# Altium schematic symbol library Resistors.SchLib: 19 symbols
Pins are listed as number, name and electrical type; pins without a type are passive.

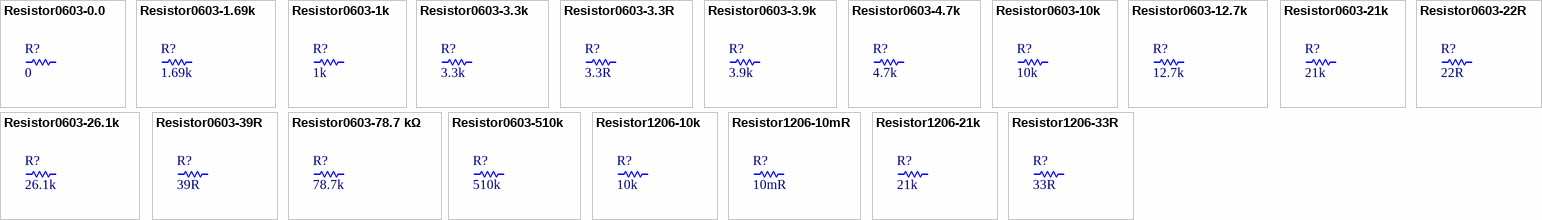
[diagram p0: symbols Resistor0603-0.0 to Resistor1206-33R]

## Resistor0603-0.0
designator R?, comment value 0  (hidden comment: SMT resistor)
Resistor0603-0.0; Precision: 1%; Watt: 0.1W; Mounted: Yes; Package / Case: Metric 1608, EIA 0603; Supplier 2: Digi-Key; Supplier 4: Digi-Key; Supplier Part Number 2: 1276-3510-2-ND; Supplier Part Number 4: 541-0.0GTR-ND; Supplier 1: Digi-Key; Supplier 3: Digi-Key; Supplier Part Number 1: RMCF0603ZT0R00TR-ND; Supplier Part Number 3: YAG1307TR-ND
footprint Resistor-0603
pins: 1, 2

## Resistor0603-1.69k
designator R?, comment value 1.69k  (hidden comment: SMT resistor)
Resistor0603-1.69k; Precision: 1%; Watt: 0.25W; Mounted: Yes; Package / Case: Metric 1608, EIA 0603; Supplier 2: Digi-Key; Supplier 4: Digi-Key; Supplier 1: Digi-Key; Supplier 3: Digi-Key; Supplier Part Number 1: RMCF0603FT1K69CT-ND
footprint Resistor-0603
pins: 1, 2

## Resistor0603-1k
designator R?, comment value 1k  (hidden comment: SMT resistor)
Resistor0603-1k; Precision: 1%; Watt: 0.1W; Mounted: Yes; Package / Case: Metric 1608, EIA 0603; Supplier 2: Digi-Key; Supplier 4: Digi-Key; Supplier Part Number 2: 311-1.00KHRTR-ND; Supplier 1: Digi-Key; Supplier 3: Digi-Key; Supplier Part Number 1: RMCF0603FT1K00TR-ND; Supplier Part Number 3: AG1307TR-ND
footprint Resistor-0603
pins: 1, 2

## Resistor0603-3.3k
designator R?, comment value 3.3k  (hidden comment: SMT resistor)
Resistor0603-3.3k; Precision: 5%; Watt: 0.25W; Mounted: Yes; Package / Case: Metric 1608, EIA 0603; Supplier 2: Digi-Key; Supplier 4: Digi-Key; Supplier 1: Digi-Key; Supplier 3: Digi-Key; Supplier Part Number 1: 311-3.30KHRCT-ND
footprint Resistor-0603
pins: 1, 2

## Resistor0603-3.3R
designator R?, comment value 3.3R  (hidden comment: SMT resistor)
Resistor0603-3.3R; Precision: 5%; Watt: 0.25W; Mounted: Yes; Package / Case: Metric 1608, EIA 0603; Supplier 2: Digi-Key; Supplier 4: Digi-Key; Supplier 1: Digi-Key; Supplier 3: Digi-Key; Supplier Part Number 1: RHM303DTR-ND
footprint Resistor-0603
pins: 1, 2

## Resistor0603-3.9k
designator R?, comment value 3.9k  (hidden comment: SMT resistor)
Resistor0603-3.9k; Precision: 1%; Watt: 0.1W; Mounted: Yes; Package / Case: Metric 1608, EIA 0603; Supplier 2: Digi-Key; Supplier 4: Digi-Key; Supplier 1: Digi-Key; Supplier 3: Digi-Key; Supplier Part Number 1: 311-3.90KHRCT-ND
footprint Resistor-0603
pins: 1, 2

## Resistor0603-4.7k
designator R?, comment value 4.7k  (hidden comment: SMT resistor)
Resistor0603-4.7k; Precision: 1%; Watt: 0.1W; Mounted: Yes; Package / Case: Metric 1608, EIA 0603; Supplier 2: Digi-Key; Supplier 4: Digi-Key; Supplier Part Number 2: RMCF0603FT4K70TR-ND; Supplier 1: Digi-Key; Supplier 3: Digi-Key; Supplier Part Number 1: 311-4.70KHRTR-ND
footprint Resistor-0603
pins: 1, 2

## Resistor0603-10k
designator R?, comment value 10k  (hidden comment: SMT resistor)
Resistor0603-10k; Precision: 1%; Watt: 0.1W; Mounted: Yes; Package / Case: Metric 1608, EIA 0603; Supplier 2: Digi-Key; Supplier 4: Digi-Key; Supplier Part Number 2: RMCF0603FT10K0TR-ND; Supplier 1: Digi-Key; Supplier 3: Digi-Key; Supplier Part Number 1: 311-10.0KHRTR-ND
footprint Resistor-0603
pins: 1, 2

## Resistor0603-12.7k
designator R?, comment value 12.7k  (hidden comment: SMT resistor)
Resistor0603-12.7k; Precision: 1%; Watt: 0.1W; Mounted: Yes; Package / Case: Metric 1608, EIA 0603; Supplier 2: Digi-Key; Supplier 4: Digi-Key; Supplier 1: Digi-Key; Supplier 3: Digi-Key; Supplier Part Number 1: RMCF0603FT12K7CT-ND
footprint Resistor-0603
pins: 1, 2

## Resistor0603-21k
designator R?, comment value 21k  (hidden comment: SMT resistor)
Resistor0603-21k; Precision: 1%; Watt: 0.1W; Mounted: Yes; Package / Case: Metric 1608, EIA 0603; Supplier 2: Digi-Key; Supplier 4: Digi-Key; Supplier 1: Digi-Key; Supplier 3: Digi-Key; Supplier Part Number 1: 311-21.0KHRCT-ND
footprint Resistor-0603
pins: 1, 2

## Resistor0603-22R
designator R?, comment value 22R  (hidden comment: SMT resistor)
Resistor0603-22R; Precision: 1%; Watt: 0.1W; Mounted: Yes; Package / Case: Metric 1608, EIA 0603; Supplier 2: Digi-Key; Supplier 4: Digi-Key; Supplier 1: Digi-Key; Supplier 3: Digi-Key; Supplier Part Number 1: RMCF0603FT22R0CT-ND
footprint Resistor-0603
pins: 1, 2

## Resistor0603-26.1k
designator R?, comment value 26.1k  (hidden comment: SMT resistor)
Resistor0603-26.1k; Precision: 1%; Watt: 0.1W; Mounted: Yes; Package / Case: Metric 1608, EIA 0603; Supplier 2: Digi-Key; Supplier 4: Digi-Key; Supplier 1: Digi-Key; Supplier 3: Digi-Key; Supplier Part Number 1: 311-26.1KHRCT-ND
footprint Resistor-0603
pins: 1, 2

## Resistor0603-39R
designator R?, comment value 39R  (hidden comment: SMT resistor)
Resistor0603-39R; Precision: 1%; Watt: 0.1W; Mounted: Yes; Package / Case: Metric 1608, EIA 0603; Supplier 2: Digi-Key; Supplier 4: Digi-Key; Supplier 1: Digi-Key; Supplier 3: Digi-Key; Supplier Part Number 1: RMCF0603FT39R0
footprint Resistor-0603
pins: 1, 2

## Resistor0603-78.7 kΩ
designator R?, comment value 78.7k  (hidden comment: SMT resistor)
Resistor0603-78.7 kΩ; Precision: 1%; Watt: 0.1W; Mounted: Yes; Package / Case: Metric 1608, EIA 0603; Supplier 2: Digi-Key; Supplier 4: Digi-Key; Supplier 1: Digi-Key; Supplier 3: Digi-Key; Supplier Part Number 1: 311-78.7KHRCT-ND
footprint Resistor-0603
pins: 1, 2

## Resistor0603-510k
designator R?, comment value 510k  (hidden comment: SMT resistor)
Resistor0603-510k; Precision: 1%; Watt: 0.1W; Mounted: Yes; Package / Case: Metric 1608, EIA 0603; Supplier 2: Digi-Key; Supplier 4: Digi-Key; Supplier 1: Digi-Key; Supplier 3: Digi-Key; Supplier Part Number 1: P510KHCT-ND
footprint Resistor-0603
pins: 1, 2

## Resistor1206-10k
designator R?, comment value 10k  (hidden comment: SMT resistor)
Resistor1206-10k; Precision: 1%; Watt: 0.1W; Mounted: Yes; Package / Case: Metric 3216, EIA 1206; Supplier 2: Digi-Key; Supplier 4: Digi-Key; Supplier 1: Digi-Key; Supplier 3: Digi-Key; Supplier Part Number 1: RMCF1206FT10K0TR-ND
footprint RESISTOR-1206 (Metric 3216, EIA 1206. Drawn per Yageo "Chip resistors Mounting" rev 10)
pins: 1, 2

## Resistor1206-10mR
designator R?, comment value 10mR  (hidden comment: SMT resistor)
Resistor1206-10mR; Precision: 1%; Watt: 0.5W; Mounted: Yes; Package / Case: Metric 3216, EIA 1206; Supplier 2: Digi-Key; Supplier 4: Digi-Key; Supplier 1: Digi-Key; Supplier 3: Digi-Key; Supplier Part Number 1: CSR1206FT10L0CT-ND
footprint RESISTOR-1206 (Metric 3216, EIA 1206. Drawn per Yageo "Chip resistors Mounting" rev 10)
pins: 1, 2

## Resistor1206-21k
designator R?, comment value 21k  (hidden comment: SMT resistor)
Resistor1206-21k-1%; Precision: 1%; Watt: 0.1W; Mounted: Yes; Package / Case: Metric 3216, EIA 1206; Supplier 2: Digi-Key; Supplier 4: Digi-Key; Supplier 1: Digi-Key; Supplier 3: Digi-Key; Supplier Part Number 1: 311-21.0KFRCT-ND
footprint RESISTOR-1206 (Metric 3216, EIA 1206. Drawn per Yageo "Chip resistors Mounting" rev 10)
pins: 1, 2

## Resistor1206-33R
designator R?, comment value 33R  (hidden comment: SMT resistor)
Resistor1206-33R; Precision: 1%; Watt: 0.1W; Mounted: Yes; Package / Case: Metric 3216, EIA 1206; Supplier 2: Digi-Key; Supplier 4: Digi-Key; Supplier 1: Digi-Key; Supplier 3: Digi-Key; Supplier Part Number 1: 311-33.0FRTR-ND
footprint RESISTOR-1206 (Metric 3216, EIA 1206. Drawn per Yageo "Chip resistors Mounting" rev 10)
pins: 1, 2